# EAGLE library part RHD2216_PRETTY (library AxonMobile)
Intan Technologies RHD2216 chip
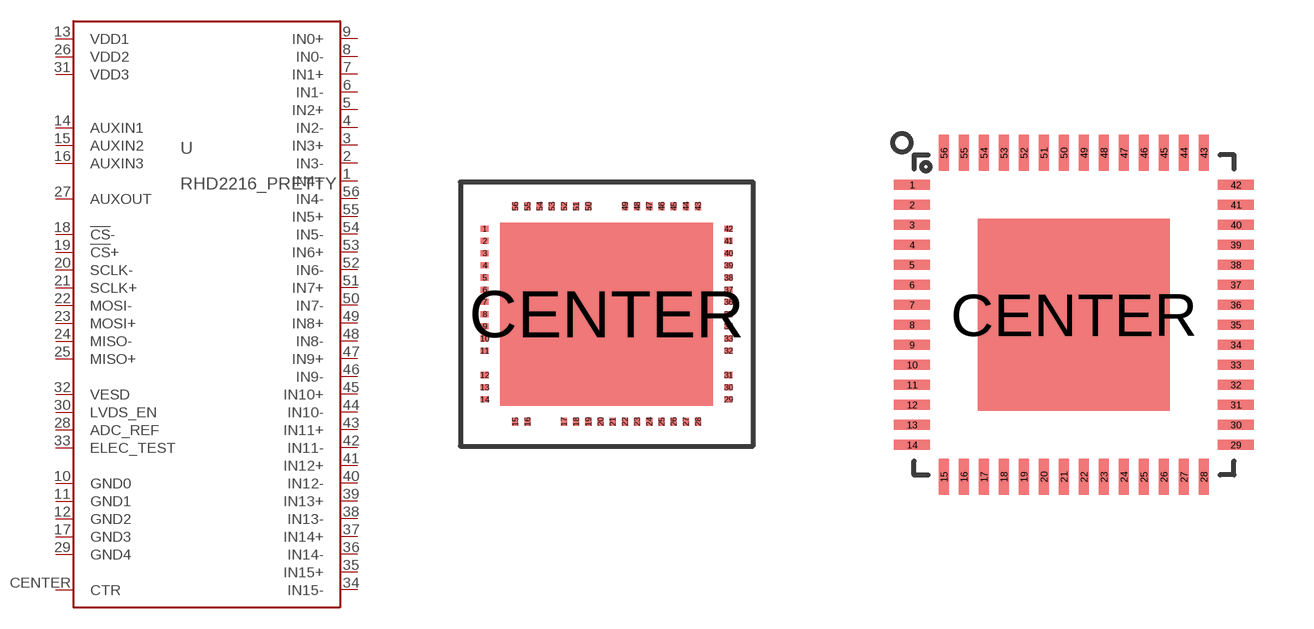
[diagram p2: symbol with the pads of RHD2000_RHD2000_56PIN_COB; footprints RHD2000_RHD2000_56PIN_COB, RHD2000_QFN56_8_X_8_LARGE]

Designator prefix U

## RHD2216_PRETTY_COB  [RHD2000_RHD2000_56PIN_COB]
1  IN4+  in
2  IN3-  in
3  IN3+  in
4  IN2-  in
5  IN2+  in
6  IN1-  in
7  IN1+  in
8  IN0-  in
9  IN0+  in
10  GND0  in
11  GND1  pwr
12  GND2  pwr
13  VDD1  pwr
14  AUXIN1  in
15  AUXIN2  in
16  AUXIN3  in
17  GND3  pwr
18  !CS!-  in
19  !CS!+  in
20  SCLK-  in
21  SCLK+  in
22  MOSI-  in
23  MOSI+  in
24  MISO-  out
25  MISO+  out
26  VDD2  pwr
27  AUXOUT  hiz
28  ADC_REF  pas
29  GND4  pwr
30  LVDS_EN  in
31  VDD3  pwr
32  VESD  pwr
33  ELEC_TEST  in
34  IN15-  in
35  IN15+  in
36  IN14-  in
37  IN14+  in
38  IN13-  in
39  IN13+  in
40  IN12-  in
41  IN12+  in
42  IN11-  in
43  IN11+  in
44  IN10-  in
45  IN10+  in
46  IN9-  in
47  IN9+  in
48  IN8-  in
49  IN8+  in
50  IN7-  in
51  IN7+  in
52  IN6-  in
53  IN6+  in
54  IN5-  in
55  IN5+  in
56  IN4-  in
CENTER  CTR  pwr

## RHD2216_PRETTY_QFN  [RHD2000_QFN56_8_X_8_LARGE]
Pads as for RHD2000_RHD2000_56PIN_COB

## Footprint RHD2000_RHD2000_56PIN_COB (pad centres in mm)
smd 0.203 x 0.152: 1 -3.048,2.134; 2 -3.048,1.829; 3 -3.048,1.524; 4 -3.048,1.219; 5 -3.048,0.914; 6 -3.048,0.61; 7 -3.048,0.305; 8 -3.048,0; 9 -3.048,-0.305; 10 -3.048,-0.61; 11 -3.048,-0.914; 12 -3.048,-1.524; 13 -3.048,-1.829; 14 -3.048,-2.134; 29 3.048,-2.134; 30 3.048,-1.829; 31 3.048,-1.524; 32 3.048,-0.914; 33 3.048,-0.61; 34 3.048,-0.305; 35 3.048,0; 36 3.048,0.305; 37 3.048,0.61; 38 3.048,0.914; 39 3.048,1.219; 40 3.048,1.524; 41 3.048,1.829; 42 3.048,2.134
smd 0.152 x 0.203: 15 -2.286,-2.692; 16 -1.981,-2.692; 17 -1.067,-2.692; 18 -0.762,-2.692; 19 -0.457,-2.692; 20 -0.152,-2.692; 21 0.152,-2.692; 22 0.457,-2.692; 23 0.762,-2.692; 24 1.067,-2.692; 25 1.372,-2.692; 26 1.676,-2.692; 27 1.981,-2.692; 28 2.286,-2.692; 43 2.286,2.692; 44 1.981,2.692; 45 1.676,2.692; 46 1.372,2.692; 47 1.067,2.692; 48 0.762,2.692; 49 0.457,2.692; 50 -0.457,2.692; 51 -0.762,2.692; 52 -1.067,2.692; 53 -1.372,2.692; 54 -1.676,2.692; 55 -1.981,2.692; 56 -2.286,2.692
smd 5.334 x 4.572: CENTER 0,0

## Footprint RHD2000_QFN56_8_X_8_LARGE (pad centres in mm)
smd 0.9 x 0.25: 1 -4.05,3.25; 2 -4.05,2.75; 3 -4.05,2.25; 4 -4.05,1.75; 5 -4.05,1.25; 6 -4.05,0.75; 7 -4.05,0.25; 8 -4.05,-0.25; 9 -4.05,-0.75; 10 -4.05,-1.25; 11 -4.05,-1.75; 12 -4.05,-2.25; 13 -4.05,-2.75; 14 -4.05,-3.25; 29 4.05,-3.25; 30 4.05,-2.75; 31 4.05,-2.25; 32 4.05,-1.75; 33 4.05,-1.25; 34 4.05,-0.75; 35 4.05,-0.25; 36 4.05,0.25; 37 4.05,0.75; 38 4.05,1.25; 39 4.05,1.75; 40 4.05,2.25; 41 4.05,2.75; 42 4.05,3.25
smd 0.25 x 0.9: 15 -3.25,-4.05; 16 -2.75,-4.05; 17 -2.25,-4.05; 18 -1.75,-4.05; 19 -1.25,-4.05; 20 -0.75,-4.05; 21 -0.25,-4.05; 22 0.25,-4.05; 23 0.75,-4.05; 24 1.25,-4.05; 25 1.75,-4.05; 26 2.25,-4.05; 27 2.75,-4.05; 28 3.25,-4.05; 43 3.25,4.05; 44 2.75,4.05; 45 2.25,4.05; 46 1.75,4.05; 47 1.25,4.05; 48 0.75,4.05; 49 0.25,4.05; 50 -0.25,4.05; 51 -0.75,4.05; 52 -1.25,4.05; 53 -1.75,4.05; 54 -2.25,4.05; 55 -2.75,4.05; 56 -3.25,4.05
smd 4.8 x 4.8: CENTER 0,0